# Altium footprint library TO-252-5.PcbLib: 1 footprints
Each footprint in its own frame and in the unit in brackets; x right, y up, seen from the top. Pads: shape width x height; smd on the part's side, far side on the other; paste and mask are expansions set on the pad; w line width, h text height; cw(c..) or ccw(c..) is an arc to the next point about the centre after c.
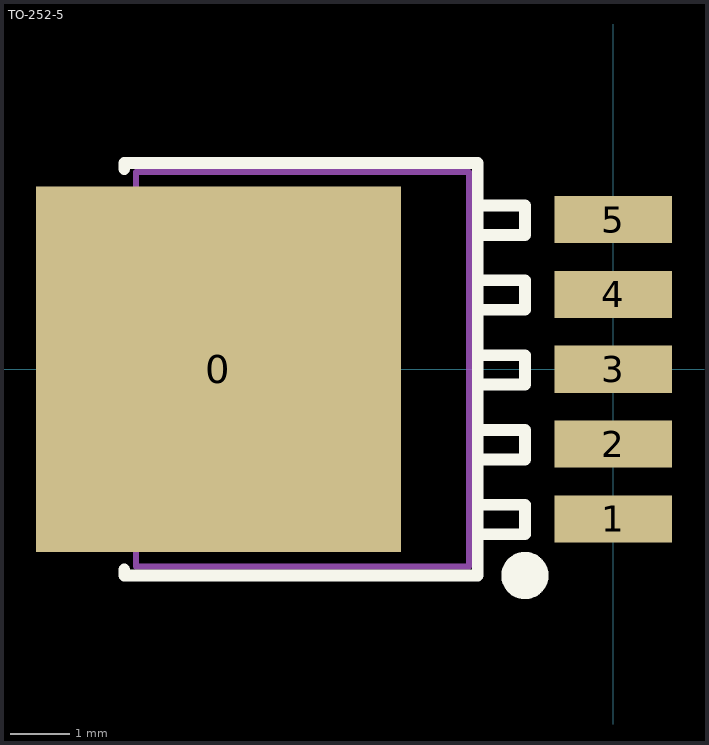
[diagram p0: the footprint, top view; thin cyan lines are the x and y axes]

## TO-252-5 [mm]
pads (6):
  rect 6.2x6.2 smd: 0(-6.7,0)
  rect 2x0.8 smd: 1(0,-2.54) 2(0,-1.27) 3(0,0) 4(0,1.27) 5(0,2.54)
Top Overlay:
  circle w0.4: c-1.5,-3.5 r0.2
  lines w0.2: -8.3,-3.4 -8.3,-3.5 -2.3,-3.5 -2.3,3.5 -8.3,3.5 -8.3,3.4 ; -2.2,-2.8 -1.5,-2.8 -1.5,-2.3 -2.2,-2.3 ; -2.2,-1.53 -1.5,-1.53 -1.5,-1.03 -2.2,-1.03 ; -2.2,-0.26 -1.5,-0.26 -1.5,0.24 -2.2,0.24 ; -2.2,1.01 -1.5,1.01 -1.5,1.51 -2.2,1.51 ; -2.2,2.28 -1.5,2.28 -1.5,2.78 -2.2,2.78
Mechanical 13:
  lines w0.1: -8.1,-3.35 -2.45,-3.35 -2.45,3.35 -8.1,3.35 -8.1,-3.35